# Altium footprint library SOD-123.PcbLib: 1 footprints
Each footprint in its own frame and in the unit in brackets; x right, y up, seen from the top. Pads: shape width x height; smd on the part's side, far side on the other; paste and mask are expansions set on the pad; w line width, h text height; cw(c..) or ccw(c..) is an arc to the next point about the centre after c.
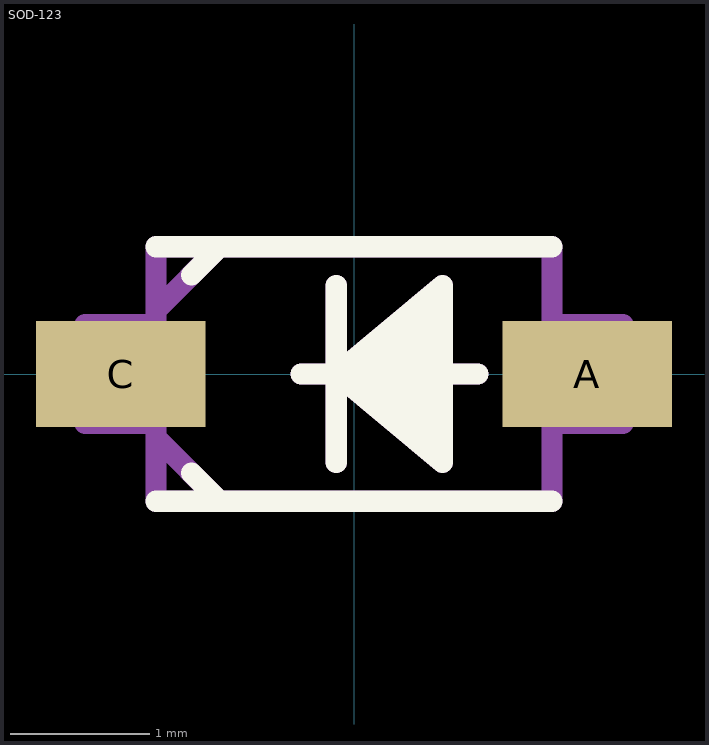
[diagram p0: the footprint, top view; thin cyan lines are the x and y axes]

## SOD-123 [mil]
pads (2):
  rect 48x30 smd: A(66,0) C(-66,0)
Top Overlay:
  lines w6: -56,-36 -38,-36 ; -56,36 -38,36 ; -46,-28 -38,-36 ; -46,28 -38,36 ; -15,0 -5,0 ; -5,-25 -5,0 ; -5,25 -5,0 ; 35,0 -5,0 ; 56,-36 -38,-36 ; 56,36 -38,36 ; -5,0 25,25 25,20 ; -5,0 25,20 ; -5,0 25,15 ; -5,0 25,10 ; -5,0 25,5 ; -5,0 25,-25 25,-20 ; -5,0 25,-20 ; -5,0 25,-15 ; -5,0 25,-10 ; -5,0 25,-5 ; 25,-20 25,-15 ; 25,-15 25,-10 ; 25,-10 25,-5 ; 25,-5 25,5 ; 25,5 25,10 ; 25,10 25,15 ; 25,15 25,20
Mechanical 4:
  lines w6: -76,-14 -76,14 ; -76,-14 -56,-14 ; -76,-14 -76,14 ; -76,-14 -56,-14 ; -76,14 -56,14 ; -76,14 -56,14 ; -56,-36 -56,-18 ; -56,-36 -38,-36 ; -56,-36 -56,-18 ; -56,-36 -38,-36 ; -56,-18 -56,-14 ; -56,-18 -38,-36 ; -56,-18 -56,-14 ; -56,-18 -38,-36 ; -56,-14 -56,14 ; -56,-14 -56,14 ; -56,14 -56,18 ; -56,14 -56,18 ; -56,18 -56,36 ; -56,18 -38,36 ; -56,18 -56,36 ; -56,18 -38,36 ; -56,36 -38,36 ; -56,36 -38,36 ; -38,-36 56,-36 ; -38,-36 56,-36 ; -38,36 56,36 ; -38,36 56,36 ; -5,0 -15,0 -5,0 ; -5,0 -5,-25 -5,0 ; -5,0 35,0 -5,0 ; -5,0 -5,25 -5,0 ; -5,0 25,25 ; -5,0 25,20 ; -5,0 25,15 ; -5,0 25,10 ; -5,0 25,5 ; -5,0 25,-25 ; -5,0 25,-20 ; -5,0 25,-15 ; -5,0 25,-10 ; -5,0 25,-5 ; -5,0 25,25 ; -5,0 25,20 ; -5,0 25,15 ; -5,0 25,10 ; -5,0 25,5 ; -5,0 25,-25 ; -5,0 25,-20 ; -5,0 25,-15 ; -5,0 25,-10 ; -5,0 25,-5 ; 25,-25 25,-20 ; 25,-25 25,-20 ; 25,-20 25,-15 ; 25,-20 25,-15 ; 25,-15 25,-10 ; 25,-15 25,-10 ; 25,-10 25,-5 ; 25,-10 25,-5 ; 25,-5 25,5 ; 25,-5 25,5 ; 25,5 25,10 ; 25,5 25,10 ; 25,10 25,15 ; 25,10 25,15 ; 25,15 25,20 ; 25,15 25,20 ; 25,20 25,25 ; 25,20 25,25 ; 56,-36 56,-14 ; 56,-36 56,-14 ; 56,-14 76,-14 ; 56,-14 56,14 ; 56,-14 76,-14 ; 56,-14 56,14 ; 56,14 56,36 ; 56,14 76,14 ; 56,14 56,36 ; 56,14 76,14 ; 76,-14 76,14 ; 76,-14 76,14